# Altium footprint library Sensor Package.PcbLib: 119 footprints (part 5 of 8)
Each footprint in its own frame and in the unit in brackets; x right, y up, seen from the top. Pads: shape width x height; smd on the part's side, far side on the other; paste and mask are expansions set on the pad; w line width, h text height; cw(c..) or ccw(c..) is an arc to the next point about the centre after c.
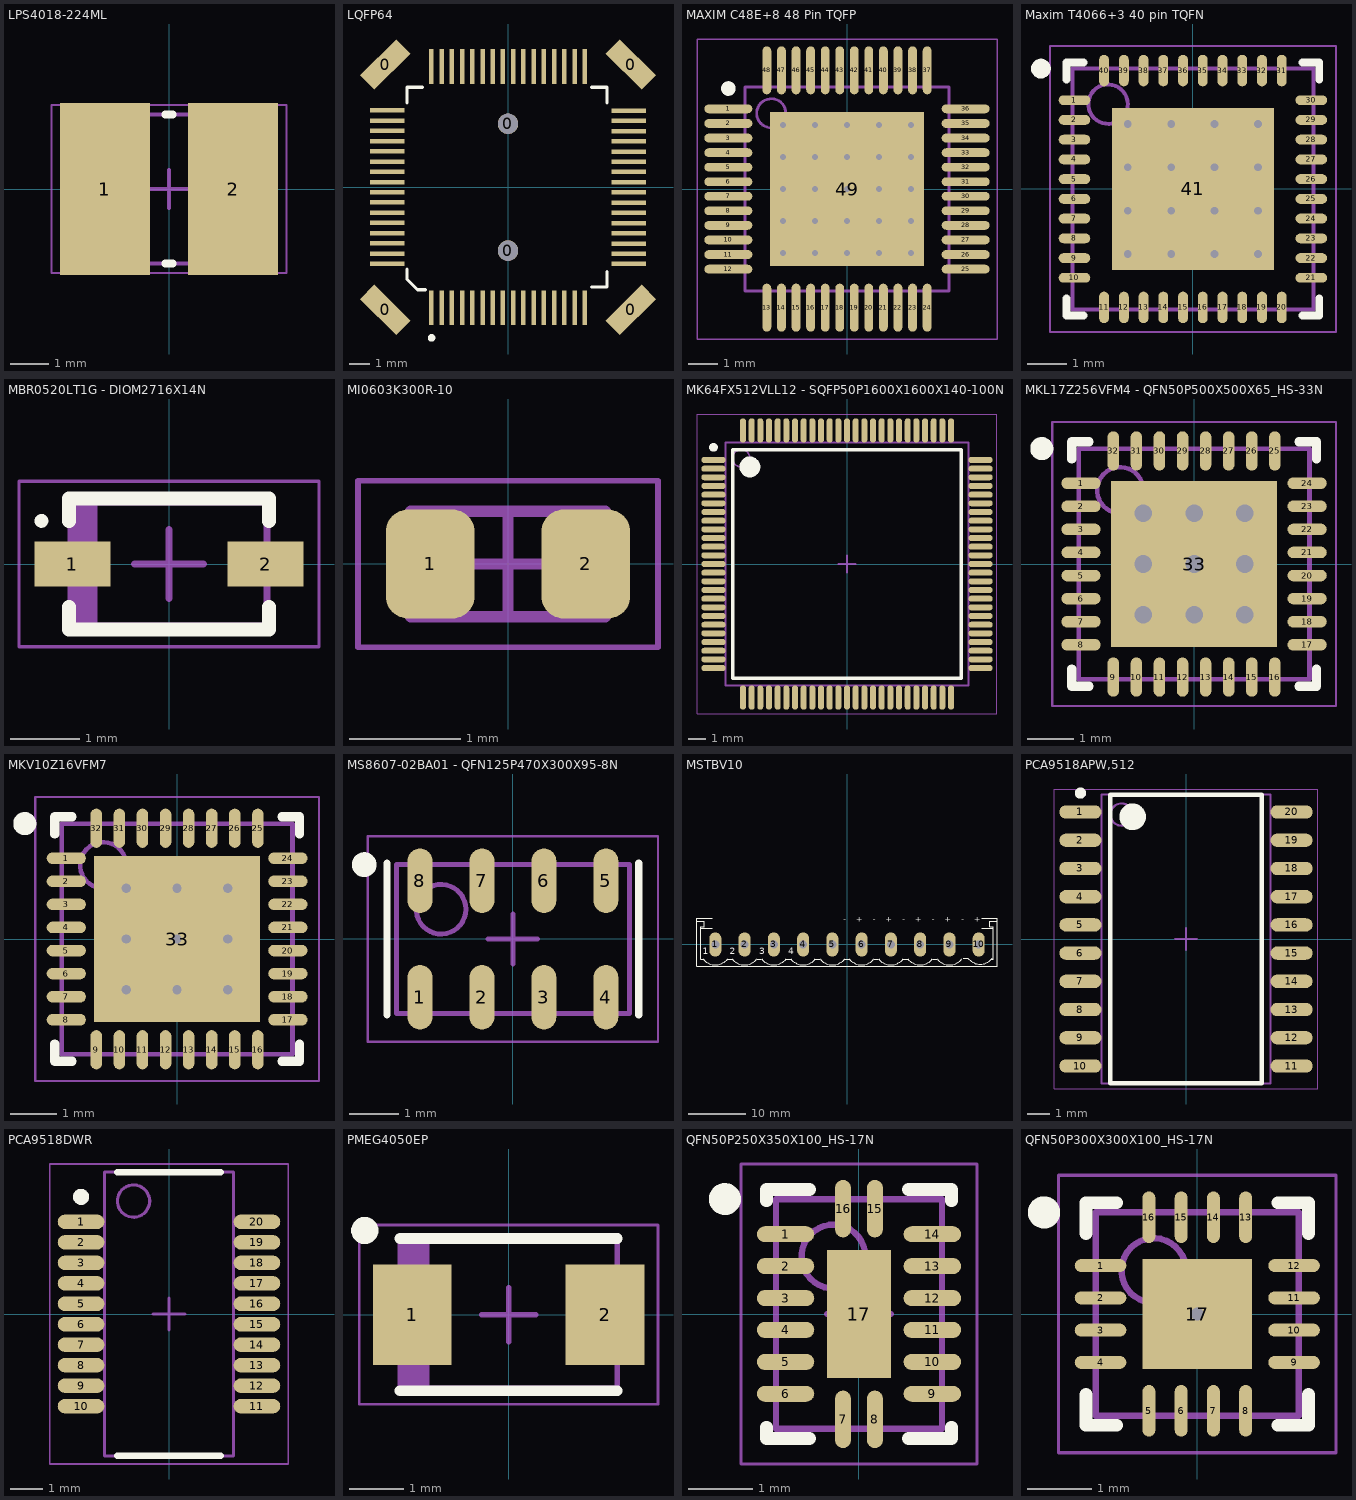
[diagram p4: the footprints below, top view; thin cyan lines are the x and y axes]

## LPS4018-224ML [mm] "Precision Wire Wound Inductor, 2-Leads, Body 4.40x3.90mm, IPC Medium Density"
height 1.7
pads (2):
  rect 2.35x4.5 smd: 1(-1.675,0) 2(1.675,0)
Top Overlay:
  lines w0.2: -0.1,-1.95 0.1,-1.95 ; -0.1,1.95 0.1,1.95
Mechanical 13:
  lines w0.1: -2.2,-1.95 -2.2,1.95 2.2,1.95 2.2,-1.95 -2.2,-1.95
Mechanical 15:
  lines w0.05: -3.075,-2.2 -3.075,2.2 3.075,2.2 3.075,-2.2 -3.075,-2.2
  lines w0.1: -0.5,0 0.5,0 ; 0,-0.5 0,0.5
3D body: height 1.7, standoff 0, extent -2.2,-1.95 2.2,1.95

## LQFP64 [mm]
height 1.6
pads (70):
  rect 1x2.5 smd rot 45: 0(-6,-6) 0(6,6)
  rect 1x2.5 smd rot 135: 0(-6,6) 0(6,-6)
  round 1 hole 1 unplated: 0(0,-3.1) 0(0,3.1)
  rect 0.22x1.7 smd: 1(-3.747,-5.901) 2(-3.247,-5.901) 3(-2.747,-5.901) 4(-2.247,-5.901) 5(-1.747,-5.901) 6(-1.247,-5.901) 7(-0.747,-5.901) 8(-0.247,-5.901) 9(0.253,-5.901) 10(0.753,-5.901) 11(1.253,-5.901) 12(1.753,-5.901) 13(2.253,-5.901) 14(2.753,-5.901) 15(3.253,-5.901) 16(3.753,-5.901) 33(3.753,5.902) 34(3.253,5.902) 35(2.753,5.902) 36(2.253,5.902) 37(1.753,5.902) 38(1.253,5.902) 39(0.753,5.902) 40(0.253,5.902) 41(-0.247,5.902) 42(-0.747,5.902) 43(-1.247,5.902) 44(-1.747,5.902) 45(-2.247,5.902) 46(-2.747,5.902) 47(-3.247,5.902) 48(-3.746,5.901)
  rect 1.7x0.22 smd: 17(5.901,-3.753) 18(5.901,-3.253) 19(5.901,-2.753) 20(5.901,-2.253) 21(5.901,-1.753) 22(5.901,-1.253) 23(5.901,-0.753) 24(5.901,-0.253) 25(5.901,0.247) 26(5.901,0.747) 27(5.901,1.247) 28(5.901,1.747) 29(5.901,2.247) 30(5.901,2.747) 31(5.901,3.247) 32(5.901,3.747) 49(-5.902,3.753) 50(-5.902,3.253) 51(-5.902,2.753) 52(-5.902,2.253) 53(-5.902,1.753) 54(-5.902,1.253) 55(-5.902,0.753) 56(-5.902,0.253) 57(-5.902,-0.247) 58(-5.902,-0.747) 59(-5.902,-1.247) 60(-5.902,-1.747) 61(-5.902,-2.247) 62(-5.902,-2.746) 63(-5.902,-3.246) 64(-5.902,-3.746)
Top Overlay:
  circle w0.25: c-3.742,-7.366 r0.059
  lines w0.152: -4.938,-4 -4.938,-4.508 -4.43,-5.016 -4.049,-5.016 ; -4.938,4.128 -4.938,4.89 -4.176,4.89 ; 4.079,-4.889 4.841,-4.889 4.841,-4.127 ; 4.079,4.89 4.841,4.89 4.841,4.128

## MAXIM C48E+8 48 Pin TQFP [mm] "TSQFP, 48-Leads, Body 7.00x7.00mm, Pitch 0.50mm, Thermal Pad 5.30x5.30mm, IPC Medium Density"
height 1.2
pads (49):
  oval 1.65x0.3 smd: 1(-4.075,2.75) 2(-4.075,2.25) 3(-4.075,1.75) 4(-4.075,1.25) 5(-4.075,0.75) 6(-4.075,0.25) 7(-4.075,-0.25) 8(-4.075,-0.75) 9(-4.075,-1.25) 10(-4.075,-1.75) 11(-4.075,-2.25) 12(-4.075,-2.75) 25(4.075,-2.75) 26(4.075,-2.25) 27(4.075,-1.75) 28(4.075,-1.25) 29(4.075,-0.75) 30(4.075,-0.25) 31(4.075,0.25) 32(4.075,0.75) 33(4.075,1.25) 34(4.075,1.75) 35(4.075,2.25) 36(4.075,2.75)
  oval 0.3x1.65 smd: 13(-2.75,-4.075) 14(-2.25,-4.075) 15(-1.75,-4.075) 16(-1.25,-4.075) 17(-0.75,-4.075) 18(-0.25,-4.075) 19(0.25,-4.075) 20(0.75,-4.075) 21(1.25,-4.075) 22(1.75,-4.075) 23(2.25,-4.075) 24(2.75,-4.075) 37(2.75,4.075) 38(2.25,4.075) 39(1.75,4.075) 40(1.25,4.075) 41(0.75,4.075) 42(0.25,4.075) 43(-0.25,4.075) 44(-0.75,4.075) 45(-1.25,4.075) 46(-1.75,4.075) 47(-2.25,4.075) 48(-2.75,4.075)
  rect 5.3x5.3 smd: 49(0,0)
via -2.2,2.2 diameter 0.5 hole 0.2
via -1.1,2.2 diameter 0.5 hole 0.2
via 0,2.2 diameter 0.5 hole 0.2
via 1.1,2.2 diameter 0.5 hole 0.2
via 2.2,2.2 diameter 0.5 hole 0.2
via -2.2,1.1 diameter 0.5 hole 0.2
via -1.1,1.1 diameter 0.5 hole 0.2
via 0,1.1 diameter 0.5 hole 0.2
via 1.1,1.1 diameter 0.5 hole 0.2
via 2.2,1.1 diameter 0.5 hole 0.2
via -2.2,0 diameter 0.5 hole 0.2
via -1.1,0 diameter 0.5 hole 0.2
via 0,0 diameter 0.5 hole 0.2
via 1.1,0 diameter 0.5 hole 0.2
via 2.2,0 diameter 0.5 hole 0.2
via -2.2,-1.1 diameter 0.5 hole 0.2
via -1.1,-1.1 diameter 0.5 hole 0.2
via 0,-1.1 diameter 0.5 hole 0.2
via 1.1,-1.1 diameter 0.5 hole 0.2
via 2.2,-1.1 diameter 0.5 hole 0.2
via -2.2,-2.2 diameter 0.5 hole 0.2
via -1.1,-2.2 diameter 0.5 hole 0.2
via 0,-2.2 diameter 0.5 hole 0.2
via 1.1,-2.2 diameter 0.5 hole 0.2
via 2.2,-2.2 diameter 0.5 hole 0.2
Top Overlay:
  circle w0.25: c-4.075,3.45 r0.125
Mechanical 13:
  circle w0.1: c-2.6,2.6 r0.5
  lines w0.1: -3.5,-3.5 -3.5,3.5 3.5,3.5 3.5,-3.5 -3.5,-3.5
Mechanical 15:
  lines w0.05: -5.15,-5.15 -5.15,5.15 5.15,5.15 5.15,-5.15 -5.15,-5.15
  lines w0.1: -0.5,0 0.5,0 ; 0,-0.5 0,0.5
3D body: height 1.2, standoff 0.05, extent -3.5,-3.5 3.5,3.5

## Maxim T4066+3 40 pin TQFN [mm] "QFN, 40-Leads, Body 6.00x6.00mm, Pitch 0.50mm, Thermal Pad 4.10x4.10mm, IPC Medium Density"
height 0.8
pads (41):
  oval 0.8x0.25 smd: 1(-3,2.25) 2(-3,1.75) 3(-3,1.25) 4(-3,0.75) 5(-3,0.25) 6(-3,-0.25) 7(-3,-0.75) 8(-3,-1.25) 9(-3,-1.75) 10(-3,-2.25) 21(3,-2.25) 22(3,-1.75) 23(3,-1.25) 24(3,-0.75) 25(3,-0.25) 26(3,0.25) 27(3,0.75) 28(3,1.25) 29(3,1.75) 30(3,2.25)
  oval 0.25x0.8 smd: 11(-2.25,-3) 12(-1.75,-3) 13(-1.25,-3) 14(-0.75,-3) 15(-0.25,-3) 16(0.25,-3) 17(0.75,-3) 18(1.25,-3) 19(1.75,-3) 20(2.25,-3) 31(2.25,3) 32(1.75,3) 33(1.25,3) 34(0.75,3) 35(0.25,3) 36(-0.25,3) 37(-0.75,3) 38(-1.25,3) 39(-1.75,3) 40(-2.25,3)
  rect 4.1x4.1 smd: 41(0,0)
via -1.65,1.65 diameter 0.5 hole 0.2
via -0.55,1.65 diameter 0.5 hole 0.2
via 0.55,1.65 diameter 0.5 hole 0.2
via 1.65,1.65 diameter 0.5 hole 0.2
via -1.65,0.55 diameter 0.5 hole 0.2
via -0.55,0.55 diameter 0.5 hole 0.2
via 0.55,0.55 diameter 0.5 hole 0.2
via 1.65,0.55 diameter 0.5 hole 0.2
via -1.65,-0.55 diameter 0.5 hole 0.2
via -0.55,-0.55 diameter 0.5 hole 0.2
via 0.55,-0.55 diameter 0.5 hole 0.2
via 1.65,-0.55 diameter 0.5 hole 0.2
via -1.65,-1.65 diameter 0.5 hole 0.2
via -0.55,-1.65 diameter 0.5 hole 0.2
via 0.55,-1.65 diameter 0.5 hole 0.2
via 1.65,-1.65 diameter 0.5 hole 0.2
Top Overlay:
  circle w0.25: c-3.85,3.05 r0.125
  lines w0.2: -3.2,-2.775 -3.2,-3.2 -2.775,-3.2 ; -3.2,2.775 -3.2,3.2 -2.775,3.2 ; 2.775,-3.2 3.2,-3.2 3.2,-2.775 ; 2.775,3.2 3.2,3.2 3.2,2.775
Mechanical 13:
  circle w0.1: c-2.15,2.15 r0.5
  lines w0.1: -3.05,-3.05 -3.05,3.05 3.05,3.05 3.05,-3.05 -3.05,-3.05
Mechanical 15:
  lines w0.05: -3.625,-3.625 -3.625,3.625 3.625,3.625 3.625,-3.625 -3.625,-3.625
  lines w0.1: -0.5,0 0.5,0 ; 0,-0.5 0,0.5
3D body: height 0.8, standoff 0.02, extent -3.05,-3.05 3.05,3.05

## MBR0520LT1G - DIOM2716X14N [mm] "Molded Diode, 2-Leads, Body 2.69x1.60mm, IPC Medium Density"
height 1.35
pads (2):
  rect 1.1x0.65 smd: 1(-1.4,0) 2(1.4,0)
Top Overlay:
  circle w0.1: c-1.85,0.625 r0.05
  lines w0.2: -1.45,-0.625 -1.45,-0.95 1.45,-0.95 1.45,-0.625 ; -1.45,0.625 -1.45,0.95 1.45,0.95 1.45,0.625
Mechanical 13:
  rectangle: -1.42,-0.9 -1.038,0.9
  lines w0.1: -1.42,-0.9 1.42,-0.9 1.42,0.9 -1.42,0.9 -1.42,-0.9
Mechanical 15:
  lines w0.05: -2.175,-1.2 2.175,-1.2 2.175,1.2 -2.175,1.2 -2.175,-1.2
  lines w0.1: -0.5,0 0.5,0 ; 0,-0.5 0,0.5
3D body: height 1.35, standoff 0, extent -1.42,-0.9 1.42,0.9

## MI0603K300R-10 [mm] "Chip Inductor, 2-Leads, Body 1.60x0.80mm, IPC Medium Density"
height 0.8
pads (2):
  rrect50% 0.8x0.98 smd: 1(-0.7,0) 2(0.7,0)
Mechanical 13:
  lines w0.1: -0.875,-0.475 -0.875,0.475 0.875,0.475 0.875,-0.475 -0.875,-0.475
Mechanical 15:
  lines w0.05: -1.35,-0.75 -1.35,0.75 1.35,0.75 1.35,-0.75 -1.35,-0.75
  lines w0.1: -0.475,0 0.475,0 ; 0,-0.475 0,0.475
3D body: height 0.8, standoff 0, extent -0.515,-0.475 0.515,0.475
3D body: height 0.8, standoff 0, extent -0.875,-0.475 -0.515,0.475
3D body: height 0.8, standoff 0, extent 0.515,-0.475 0.875,0.475

## MK64FX512VLL12 - SQFP50P1600X1600X140-100N [mm] "TSQFP, 100-Leads, Body 14.00x14.00mm, Pitch 0.50mm, IPC Medium Density"
height 1.4
pads (100):
  oval 1.4x0.35 smd: 1(-7.7,6) 2(-7.7,5.5) 3(-7.7,5) 4(-7.7,4.5) 5(-7.7,4) 6(-7.7,3.5) 7(-7.7,3) 8(-7.7,2.5) 9(-7.7,2) 10(-7.7,1.5) 11(-7.7,1) 12(-7.7,0.5) 13(-7.7,0) 14(-7.7,-0.5) 15(-7.7,-1) 16(-7.7,-1.5) 17(-7.7,-2) 18(-7.7,-2.5) 19(-7.7,-3) 20(-7.7,-3.5) 21(-7.7,-4) 22(-7.7,-4.5) 23(-7.7,-5) 24(-7.7,-5.5) 25(-7.7,-6) 51(7.7,-6) 52(7.7,-5.5) 53(7.7,-5) 54(7.7,-4.5) 55(7.7,-4) 56(7.7,-3.5) 57(7.7,-3) 58(7.7,-2.5) 59(7.7,-2) 60(7.7,-1.5) 61(7.7,-1) 62(7.7,-0.5) 63(7.7,0) 64(7.7,0.5) 65(7.7,1) 66(7.7,1.5) 67(7.7,2) 68(7.7,2.5) 69(7.7,3) 70(7.7,3.5) 71(7.7,4) 72(7.7,4.5) 73(7.7,5) 74(7.7,5.5) 75(7.7,6)
  oval 0.35x1.4 smd: 26(-6,-7.7) 27(-5.5,-7.7) 28(-5,-7.7) 29(-4.5,-7.7) 30(-4,-7.7) 31(-3.5,-7.7) 32(-3,-7.7) 33(-2.5,-7.7) 34(-2,-7.7) 35(-1.5,-7.7) 36(-1,-7.7) 37(-0.5,-7.7) 38(0,-7.7) 39(0.5,-7.7) 40(1,-7.7) 41(1.5,-7.7) 42(2,-7.7) 43(2.5,-7.7) 44(3,-7.7) 45(3.5,-7.7) 46(4,-7.7) 47(4.5,-7.7) 48(5,-7.7) 49(5.5,-7.7) 50(6,-7.7) 76(6,7.7) 77(5.5,7.7) 78(5,7.7) 79(4.5,7.7) 80(4,7.7) 81(3.5,7.7) 82(3,7.7) 83(2.5,7.7) 84(2,7.7) 85(1.5,7.7) 86(1,7.7) 87(0.5,7.7) 88(0,7.7) 89(-0.5,7.7) 90(-1,7.7) 91(-1.5,7.7) 92(-2,7.7) 93(-2.5,7.7) 94(-3,7.7) 95(-3.5,7.7) 96(-4,7.7) 97(-4.5,7.7) 98(-5,7.7) 99(-5.5,7.7) 100(-6,7.7)
Top Overlay:
  circle w0.6: c-5.6,5.6 r0.3
  circle w0.25: c-7.7,6.725 r0.125
  lines w0.2: -6.6,-6.6 6.6,-6.6 6.6,6.6 -6.6,6.6 -6.6,-6.6
Mechanical 13:
  circle w0.1: c-6.1,6.1 r0.5
  lines w0.1: -7,-7 7,-7 7,7 -7,7 -7,-7
Mechanical 15:
  lines w0.05: -8.65,-8.65 8.65,-8.65 8.65,8.65 -8.65,8.65 -8.65,-8.65
  lines w0.1: -0.5,0 0.5,0 ; 0,-0.5 0,0.5
3D body: height 1.4, standoff 0.25, extent -7,-7 7,7

## MKL17Z256VFM4 - QFN50P500X500X65_HS-33N [mm] "QFN, 32-Leads, Body 5.00x5.00mm, Pitch 0.50mm, Thermal Pad 3.60x3.60mm, IPC Medium Density"
height 0.65
pads (33):
  oval 0.85x0.25 smd: 1(-2.45,1.75) 2(-2.45,1.25) 3(-2.45,0.75) 4(-2.45,0.25) 5(-2.45,-0.25) 6(-2.45,-0.75) 7(-2.45,-1.25) 8(-2.45,-1.75) 17(2.45,-1.75) 18(2.45,-1.25) 19(2.45,-0.75) 20(2.45,-0.25) 21(2.45,0.25) 22(2.45,0.75) 23(2.45,1.25) 24(2.45,1.75)
  oval 0.25x0.85 smd: 9(-1.75,-2.45) 10(-1.25,-2.45) 11(-0.75,-2.45) 12(-0.25,-2.45) 13(0.25,-2.45) 14(0.75,-2.45) 15(1.25,-2.45) 16(1.75,-2.45) 25(1.75,2.45) 26(1.25,2.45) 27(0.75,2.45) 28(0.25,2.45) 29(-0.25,2.45) 30(-0.75,2.45) 31(-1.25,2.45) 32(-1.75,2.45)
  rect 3.6x3.6 smd: 33(0,0)
via -1.1,1.1 diameter 0.635 hole 0.381
via 0,1.1 diameter 0.635 hole 0.381
via 1.1,1.1 diameter 0.635 hole 0.381
via -1.1,0 diameter 0.635 hole 0.381
via 0,0 diameter 0.635 hole 0.381
via 1.1,0 diameter 0.635 hole 0.381
via -1.1,-1.1 diameter 0.635 hole 0.381
via 0,-1.1 diameter 0.635 hole 0.381
via 1.1,-1.1 diameter 0.635 hole 0.381
Top Overlay:
  circle w0.25: c-3.3,2.5 r0.125
  lines w0.2: -2.65,-2.275 -2.65,-2.65 -2.275,-2.65 ; -2.65,2.275 -2.65,2.65 -2.275,2.65 ; 2.275,-2.65 2.65,-2.65 2.65,-2.275 ; 2.275,2.65 2.65,2.65 2.65,2.275
Mechanical 13:
  circle w0.1: c-1.6,1.6 r0.5
  lines w0.1: -2.5,-2.5 -2.5,2.5 2.5,2.5 2.5,-2.5 -2.5,-2.5
Mechanical 15:
  lines w0.05: -3.075,-3.075 -3.075,3.075 3.075,3.075 3.075,-3.075 -3.075,-3.075
  lines w0.1: -0.5,0 0.5,0 ; 0,-0.5 0,0.5
3D body: height 0.65, standoff 0.01, extent -2.5,-2.5 2.5,2.5

## MKV10Z16VFM7 [mm] "QFN, 32-Leads, Body 5.00x5.00mm, Pitch 0.50mm, Thermal Pad 3.60x3.60mm, IPC Medium Density"
height 1
pads (33):
  oval 0.85x0.25 smd: 1(-2.4,1.75) 2(-2.4,1.25) 3(-2.4,0.75) 4(-2.4,0.25) 5(-2.4,-0.25) 6(-2.4,-0.75) 7(-2.4,-1.25) 8(-2.4,-1.75) 17(2.4,-1.75) 18(2.4,-1.25) 19(2.4,-0.75) 20(2.4,-0.25) 21(2.4,0.25) 22(2.4,0.75) 23(2.4,1.25) 24(2.4,1.75)
  oval 0.25x0.85 smd: 9(-1.75,-2.4) 10(-1.25,-2.4) 11(-0.75,-2.4) 12(-0.25,-2.4) 13(0.25,-2.4) 14(0.75,-2.4) 15(1.25,-2.4) 16(1.75,-2.4) 25(1.75,2.4) 26(1.25,2.4) 27(0.75,2.4) 28(0.25,2.4) 29(-0.25,2.4) 30(-0.75,2.4) 31(-1.25,2.4) 32(-1.75,2.4)
  rect 3.6x3.6 smd: 33(0,0)
via -1.1,1.1 diameter 0.5 hole 0.2
via 0,1.1 diameter 0.5 hole 0.2
via 1.1,1.1 diameter 0.5 hole 0.2
via -1.1,0 diameter 0.5 hole 0.2
via 0,0 diameter 0.5 hole 0.2
via 1.1,0 diameter 0.5 hole 0.2
via -1.1,-1.1 diameter 0.5 hole 0.2
via 0,-1.1 diameter 0.5 hole 0.2
via 1.1,-1.1 diameter 0.5 hole 0.2
Top Overlay:
  circle w0.25: c-3.3,2.5 r0.125
  lines w0.2: -2.65,-2.275 -2.65,-2.65 -2.275,-2.65 ; -2.65,2.275 -2.65,2.65 -2.275,2.65 ; 2.275,-2.65 2.65,-2.65 2.65,-2.275 ; 2.275,2.65 2.65,2.65 2.65,2.275
Mechanical 13:
  circle w0.1: c-1.6,1.6 r0.5
  lines w0.1: -2.5,-2.5 -2.5,2.5 2.5,2.5 2.5,-2.5 -2.5,-2.5
Mechanical 15:
  lines w0.05: -3.075,-3.075 -3.075,3.075 3.075,3.075 3.075,-3.075 -3.075,-3.075
  lines w0.1: -0.5,0 0.5,0 ; 0,-0.5 0,0.5
3D body: height 1, standoff 0.05, extent -2.5,-2.5 2.5,2.5

## MS8607-02BA01 - QFN125P470X300X95-8N [mm] "QFN, 8-Leads, Body 4.70x3.00mm, Pitch 1.25mm, IPC Medium Density"
height 0.95
pads (8):
  oval 0.5x1.3 smd: 1(-1.875,-1.175) 2(-0.625,-1.175) 3(0.625,-1.175) 4(1.875,-1.175) 5(1.875,1.175) 6(0.625,1.175) 7(-0.625,1.175) 8(-1.875,1.175)
Top Overlay:
  circle w0.25: c-3,1.5 r0.125
  lines w0.15: -2.54,-1.524 -2.54,1.524 ; 2.54,-1.524 2.54,1.524
Mechanical 13:
  circle w0.1: c-1.45,0.6 r0.5
  lines w0.1: -2.35,-1.5 2.35,-1.5 2.35,1.5 -2.35,1.5 -2.35,-1.5
Mechanical 15:
  lines w0.05: -2.925,-2.075 2.925,-2.075 2.925,2.075 -2.925,2.075 -2.925,-2.075
  lines w0.1: -0.5,0 0.5,0 ; 0,-0.5 0,0.5
3D body: height 0.95, standoff 0.02, extent -2.35,-1.5 2.35,1.5

## MSTBV10 [mil]
pads (10):
  oval 82.5x165 hole 55: 1(-900,0) 2(-700,0) 3(-500,0) 4(-300,0) 5(-100,0) 6(100,0) 7(300,0) 8(500,0) 9(700,0) 10(900,0)
Top Overlay:
  lines w5.98: 920,180 1025,180
  lines w6: -984,-98 ccw(c-900,-35) -900,-140 ccw(c-900,-35) -816,-98 ; -983,-100 -1000,-100 -1000,110 ; -920,110 -1000,110 ; -920,180 -1025,180 -1025,160 ; -815,-100 -785,-100 ; -784,-98 ccw(c-700,-35) -700,-140 ccw(c-700,-35) -616,-98 ; -615,-100 -585,-100 ; -584,-98 ccw(c-500,-35) -500,-140 ccw(c-500,-35) -416,-98 ; -415,-100 -385,-100 ; -384,-98 ccw(c-300,-35) -300,-140 ccw(c-300,-35) -216,-98 ; -217,-100 -200,-100 ; -215,-100 -185,-100 ; -184,-98 ccw(c-100,-35) -100,-140 ccw(c-100,-35) -16,-98 ; -15,-100 15,-100 ; 16,-98 ccw(c100,-35) 100,-140 ccw(c100,-35) 184,-98 ; 185,-100 215,-100 ; 216,-98 ccw(c300,-35) 300,-140 ccw(c300,-35) 384,-98 ; 385,-100 415,-100 ; 416,-98 ccw(c500,-35) 500,-140 ccw(c500,-35) 584,-98 ; 585,-100 615,-100 ; 616,-98 ccw(c700,-35) 700,-140 ccw(c700,-35) 784,-98 ; 795,-95 825,-95 ; 826,-93 ccw(c910,-30) 910,-135 ccw(c910,-30) 994,-93 ; 920,110 1000,110 ; 990,-100 1000,-100 1000,110 ; 1025,180 1025,160 ; -1025,160 -1025,-150 -175,-150 -70,-150 1025,-150 1025,160 ; -1025,160 -976.38,160 -976.38,120 -1000,120 -1000,110 ; 1000,110 1000,120 976.38,120 976.38,160 1025,160
  text "+    -    +    -    +    -    +    -    +    -" at 915,185 h40
  text "1" at -985,-85 h77.5
  text "2" at -800,-85 h77.5
  text "3" at -600,-85 h77.5
  text "4" at -400,-85 h77.5
Mechanical 8:
  lines w6: -925,-25 -925,25 ; -925,-25 -875,-25 ; -925,-25 -875,25 ; -925,25 -875,25 ; -925,25 -875,-25 ; -875,-25 -875,25 ; -725,-25 -675,-25 ; -725,-25 -725,25 ; -725,-25 -675,25 ; -725,25 -675,25 ; -725,25 -675,-25 ; -675,-25 -675,25 ; -525,-25 -525,25 ; -525,-25 -475,-25 ; -525,-25 -475,25 ; -525,25 -475,25 ; -525,25 -475,-25 ; -475,-25 -475,25 ; -325,-25 -325,25 ; -325,-25 -275,25 ; -325,-25 -275,-25 ; -325,25 -275,25 ; -325,25 -275,-25 ; -275,-25 -275,25
3D body: height 472.44, standoff 0, extent -1028,-153 1025,183

## PCA9518APW,512 [mm] "SOIC, 20-Leads, Body 12.80x7.50mm, Pitch 1.27mm, IPC Medium Density"
height 2.65
pads (20):
  oval 1.9x0.6 smd: 1(-4.75,5.715) 2(-4.75,4.445) 3(-4.75,3.175) 4(-4.75,1.905) 5(-4.75,0.635) 6(-4.75,-0.635) 7(-4.75,-1.905) 8(-4.75,-3.175) 9(-4.75,-4.445) 10(-4.75,-5.715) 11(4.75,-5.715) 12(4.75,-4.445) 13(4.75,-3.175) 14(4.75,-1.905) 15(4.75,-0.635) 16(4.75,0.635) 17(4.75,1.905) 18(4.75,3.175) 19(4.75,4.445) 20(4.75,5.715)
Top Overlay:
  circle w0.6: c-2.4,5.5 r0.3
  circle w0.25: c-4.75,6.565 r0.125
  lines w0.2: -3.4,-6.5 3.4,-6.5 3.4,6.5 -3.4,6.5 -3.4,-6.5
Mechanical 13:
  circle w0.1: c-2.9,5.6 r0.5
  lines w0.1: -3.8,-6.5 3.8,-6.5 3.8,6.5 -3.8,6.5 -3.8,-6.5
Mechanical 15:
  lines w0.05: -5.925,-6.75 5.925,-6.75 5.925,6.75 -5.925,6.75 -5.925,-6.75
  lines w0.1: -0.5,0 0.5,0 ; 0,-0.5 0,0.5
3D body: height 2.65, standoff 0.1, extent -3.8,-6.5 3.8,6.5

## PCA9518DWR [mm] "SOP, 20-Leads, Body 8.65x3.90mm, Pitch 0.64mm, Thermal Pad 5.22x3.10mm, IPC Medium Density"
height 1.75
pads (20):
  oval 1.45x0.45 smd: 1(-2.725,2.857) 2(-2.725,2.222) 3(-2.725,1.587) 4(-2.725,0.953) 5(-2.725,0.318) 6(-2.725,-0.318) 7(-2.725,-0.953) 8(-2.725,-1.587) 9(-2.725,-2.222) 10(-2.725,-2.857) 11(2.725,-2.857) 12(2.725,-2.222) 13(2.725,-1.587) 14(2.725,-0.953) 15(2.725,-0.318) 16(2.725,0.318) 17(2.725,0.953) 18(2.725,1.587) 19(2.725,2.222) 20(2.725,2.857)
Top Overlay:
  circle w0.25: c-2.725,3.632 r0.125
  lines w0.2: -1.6,-4.4 1.6,-4.4 ; -1.6,4.4 1.6,4.4
Mechanical 13:
  circle w0.1: c-1.1,3.5 r0.5
  lines w0.1: -2,-4.4 2,-4.4 2,4.4 -2,4.4 -2,-4.4
Mechanical 15:
  lines w0.05: -3.7,-4.65 3.7,-4.65 3.7,4.65 -3.7,4.65 -3.7,-4.65
  lines w0.1: -0.5,0 0.5,0 ; 0,-0.5 0,0.5
3D body: height 1.75, standoff 0.1, extent -2,-4.4 2,4.4

## PMEG4050EP [mm] "Molded Diode, 2-Leads, Body 3.80x2.50mm, IPC Medium Density"
height 1.1
pads (2):
  rect 1.45x1.85 smd: 1(-1.775,0) 2(1.775,0)
Top Overlay:
  circle w0.25: c-2.65,1.55 r0.125
  lines w0.2: -2,-1.4 2,-1.4 ; -2,1.4 2,1.4
Mechanical 13:
  rectangle: -2,-1.35 -1.462,1.35
  lines w0.1: -2,-1.35 2,-1.35 2,1.35 -2,1.35 -2,-1.35
Mechanical 15:
  lines w0.05: -2.75,-1.65 2.75,-1.65 2.75,1.65 -2.75,1.65 -2.75,-1.65
  lines w0.1: -0.5,0 0.5,0 ; 0,-0.5 0,0.5
3D body: height 1.1, standoff 0, extent -2,-1.35 2,1.35

## QFN50P250X350X100_HS-17N [mm] "QFN, 16-Leads, Body 2.50x3.50mm, Pitch 0.50mm, Thermal Pad 1.00x2.00mm, IPC Medium Density"
height 1
pads (17):
  oval 0.9x0.25 smd: 1(-1.15,1.25) 2(-1.15,0.75) 3(-1.15,0.25) 4(-1.15,-0.25) 5(-1.15,-0.75) 6(-1.15,-1.25) 9(1.15,-1.25) 10(1.15,-0.75) 11(1.15,-0.25) 12(1.15,0.25) 13(1.15,0.75) 14(1.15,1.25)
  oval 0.25x0.9 smd: 7(-0.25,-1.65) 8(0.25,-1.65) 15(0.25,1.65) 16(-0.25,1.65)
  rect 1x2 smd: 17(0,0)
Top Overlay:
  circle w0.25: c-2.1,1.8 r0.125
  lines w0.2: -1.45,-1.775 -1.45,-1.95 -0.775,-1.95 ; -1.45,1.775 -1.45,1.95 -0.775,1.95 ; 0.775,-1.95 1.45,-1.95 1.45,-1.775 ; 0.775,1.95 1.45,1.95 1.45,1.775
Mechanical 13:
  circle w0.1: c-0.4,0.9 r0.5
  lines w0.1: -1.3,-1.8 -1.3,1.8 1.3,1.8 1.3,-1.8 -1.3,-1.8
Mechanical 15:
  lines w0.05: -1.85,-2.35 -1.85,2.35 1.85,2.35 1.85,-2.35 -1.85,-2.35
  lines w0.1: -0.5,0 0.5,0 ; 0,-0.5 0,0.5
3D body: height 1, standoff 0.05, extent -1.3,-1.8 1.3,1.8

## QFN50P300X300X100_HS-17N [mm] "QFN, 16-Leads, Body 3.00x3.00mm, Pitch 0.50mm, Thermal Pad 1.70x1.70mm, IPC Medium Density"
height 1
pads (17):
  oval 0.8x0.2 smd: 1(-1.5,0.75) 2(-1.5,0.25) 3(-1.5,-0.25) 4(-1.5,-0.75) 9(1.5,-0.75) 10(1.5,-0.25) 11(1.5,0.25) 12(1.5,0.75)
  oval 0.2x0.8 smd: 5(-0.75,-1.5) 6(-0.25,-1.5) 7(0.25,-1.5) 8(0.75,-1.5) 13(0.75,1.5) 14(0.25,1.5) 15(-0.25,1.5) 16(-0.75,1.5)
  rect 1.7x1.7 smd: 17(0,0)
via 0,0 diameter 0.5 hole 0.2
Top Overlay:
  circle w0.25: c-2.375,1.575 r0.125
  lines w0.2: -1.725,-1.25 -1.725,-1.725 -1.25,-1.725 ; -1.725,1.25 -1.725,1.725 -1.25,1.725 ; 1.25,-1.725 1.725,-1.725 1.725,-1.25 ; 1.25,1.725 1.725,1.725 1.725,1.25
Mechanical 13:
  circle w0.1: c-0.675,0.675 r0.5
  lines w0.1: -1.575,-1.575 -1.575,1.575 1.575,1.575 1.575,-1.575 -1.575,-1.575
Mechanical 15:
  lines w0.05: -2.15,-2.15 -2.15,2.15 2.15,2.15 2.15,-2.15 -2.15,-2.15
  lines w0.1: -0.5,0 0.5,0 ; 0,-0.5 0,0.5
3D body: height 1, standoff 0.05, extent -1.575,-1.575 1.575,1.575